# Altium footprint library J 接插件.PcbLib: 458 footprints (part 27 of 29)
Each footprint in its own frame and in the unit in brackets; x right, y up, seen from the top. Pads: shape width x height; smd on the part's side, far side on the other; paste and mask are expansions set on the pad; w line width, h text height; cw(c..) or ccw(c..) is an arc to the next point about the centre after c.
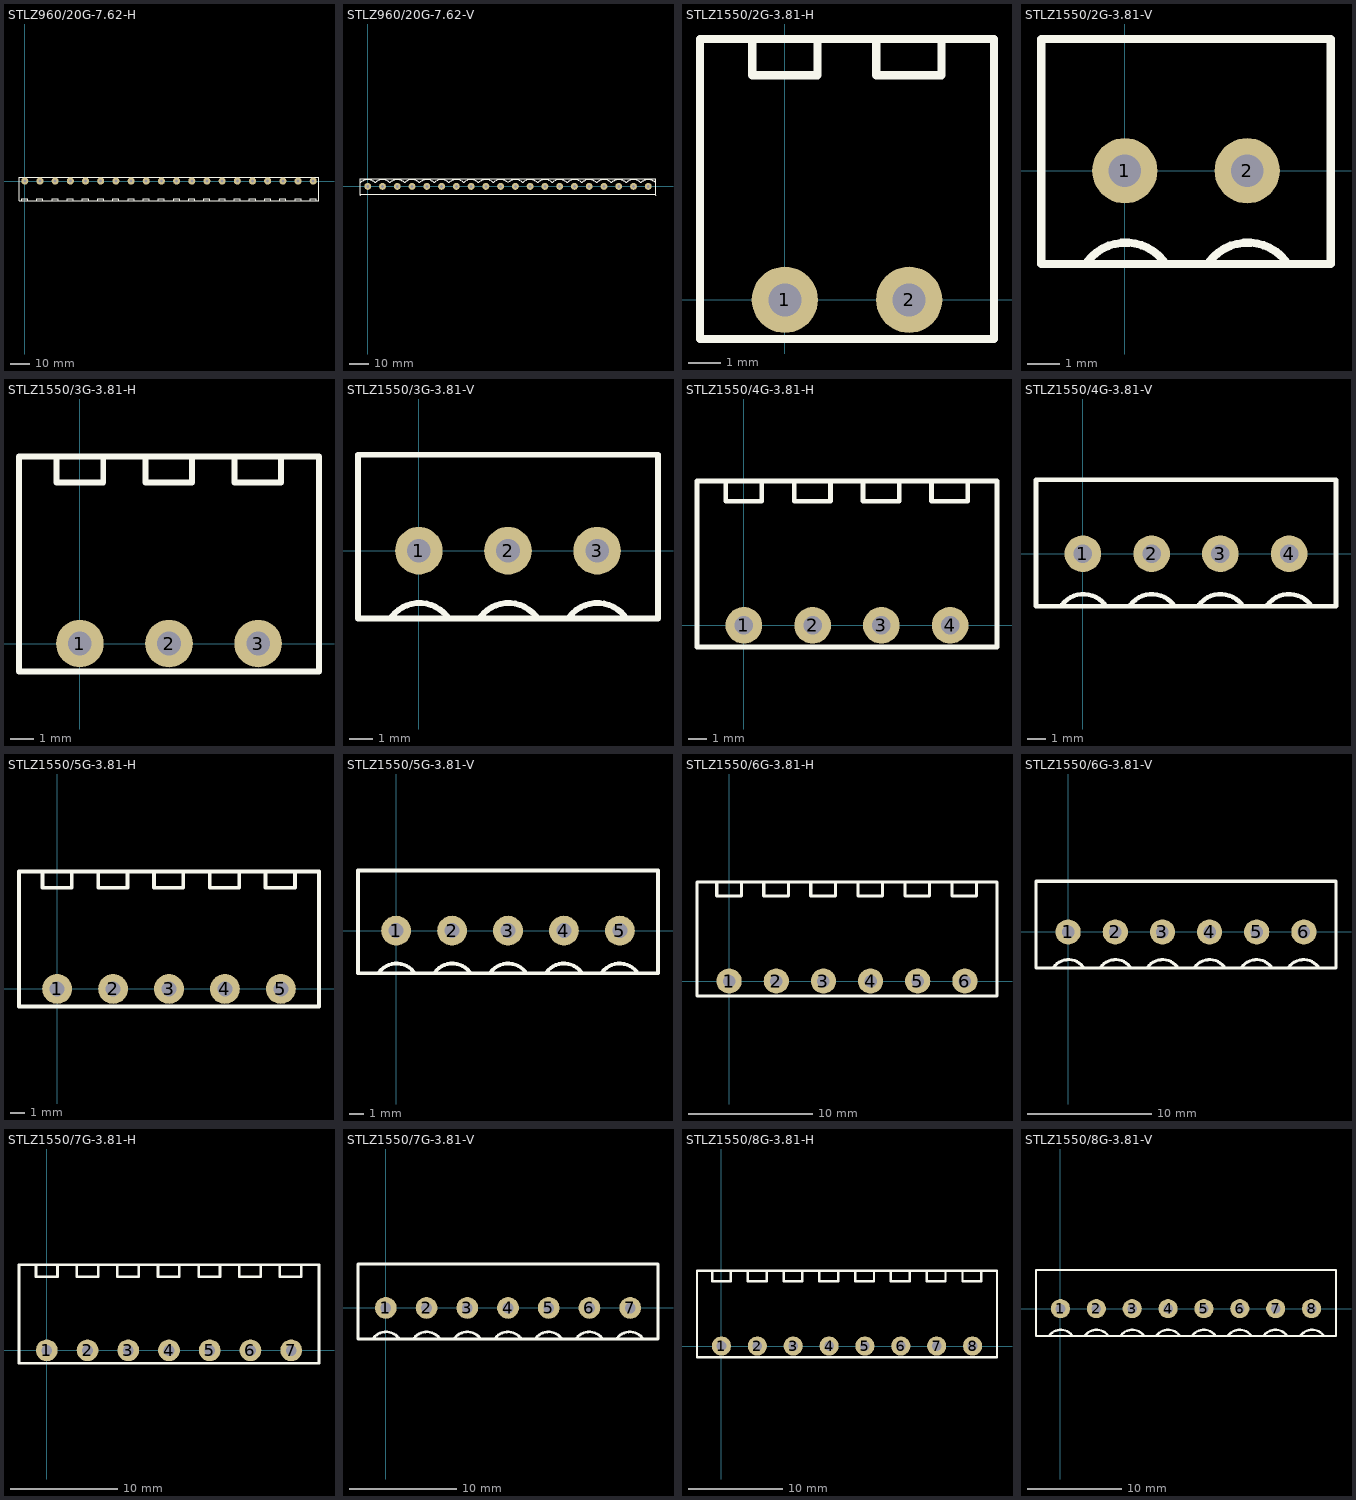
[diagram p26: the footprints below, top view; thin cyan lines are the x and y axes]

## STLZ960/20G-7.62-H [mil] "美卡诺 STLZ960 接触件座  间距：7.62   20Pin   弯角"
height 330.71
pads (20):
  round 140 hole 60: 1(0,0) 2(300,0) 3(600,0) 4(900,0) 5(1200,0) 6(1500,0) 7(1800,0) 8(2100,0) 9(2400,0) 10(2700,0) 11(3000,0) 12(3300,0) 13(3600,0) 14(3900,0) 15(4200,0) 16(4500,0) 17(4800,0) 18(5100,0) 19(5400,0) 20(5700,0)
Top Overlay:
  lines w10: -60,-390 -60,-350 60,-350 60,-390 ; 240,-390 240,-350 360,-350 360,-390 ; 540,-390 540,-350 660,-350 660,-390 ; 840,-390 840,-350 960,-350 960,-390 ; 1140,-390 1140,-350 1260,-350 1260,-390 ; 1440,-390 1440,-350 1560,-350 1560,-390 ; 1740,-390 1740,-350 1860,-350 1860,-390 ; 2040,-390 2040,-350 2160,-350 2160,-390 ; 2340,-390 2340,-350 2460,-350 2460,-390 ; 2640,-390 2640,-350 2760,-350 2760,-390 ; 2940,-390 2940,-350 3060,-350 3060,-390 ; 3240,-390 3240,-350 3360,-350 3360,-390 ; 3540,-390 3540,-350 3660,-350 3660,-390 ; 3840,-390 3840,-350 3960,-350 3960,-390 ; 4140,-390 4140,-350 4260,-350 4260,-390 ; 4440,-390 4440,-350 4560,-350 4560,-390 ; 4740,-390 4740,-350 4860,-350 4860,-390 ; 5040,-390 5040,-350 5160,-350 5160,-390 ; 5340,-390 5340,-350 5460,-350 5460,-390 ; 5640,-390 5640,-350 5760,-350 5760,-390 ; -114.17,-393.7 5814.17,-393.7 5814.17,78.74 -114.17,78.74 -114.17,-393.7

## STLZ960/20G-7.62-V [mil] "美卡诺 STLZ960 接触件座  间距：7.62   20Pin"
height 826.77
pads (20):
  round 140 hole 60: 1(0,0) 2(300,0) 3(600,0) 4(900,0) 5(1200,0) 6(1500,0) 7(1800,0) 8(2100,0) 9(2400,0) 10(2700,0) 11(3000,0) 12(3300,0) 13(3600,0) 14(3900,0) 15(4200,0) 16(4500,0) 17(4800,0) 18(5100,0) 19(5400,0) 20(5700,0)
Top Overlay:
  lines w10: -150,-181.1 -150,149.61 5850,149.61 5850,-181.1 ; -150,-161.42 5850,-161.42 ; -149.61,-182.09 -149.61,-181.1 ; -149.61,80 -140,80 cw(c0,-60) 140,80 160,80 cw(c300,-60) 440,80 460,80 cw(c600,-60) 740,80 ; -148.62,-182.09 -130.91,-164.37 ; -142.72,-173.23 -142.72,-163.39 ; 748.82,80 740,80 ; 2548.82,80 2540,80 ; 5833.27,-165.35 5849.02,-181.1 ; 5843.11,-170.28 5843.11,-162.4 ; 5848.82,80 5840,80 ccw(c5700,-60) 5560,80 5540,80 ccw(c5400,-60) 5260,80 5240,80 ccw(c5100,-60) 4960,80 4940,80 ccw(c4800,-60) 4660,80 4640,80 ccw(c4500,-60) 4360,80 4340,80 ccw(c4200,-60) 4060,80 4040,80 ccw(c3900,-60) 3760,80 3740,80 ccw(c3600,-60) 3460,80 3440,80 ccw(c3300,-60) 3160,80 3140,80 ccw(c3000,-60) 2860,80 2840,80 ccw(c2700,-60) 2560,80 2540,80 ; 740,80 760,80 cw(c900,-60) 1040,80 1060,80 cw(c1200,-60) 1340,80 1360,80 cw(c1500,-60) 1640,80 1660,80 cw(c1800,-60) 1940,80 1960,80 cw(c2100,-60) 2240,80 2260,80 cw(c2400,-60) 2540,80

## STLZ1550/2G-3.81-H [mil] "美卡诺 STLZ1550 接触件座  间距：3.81   2Pin   弯角"
height 275.59
pads (2):
  round 80 hole 40: 1(0,0) 2(150,0)
Top Overlay:
  lines w10: -39.37,311.26 -39.37,271.26 39.37,271.26 39.37,311.26 ; 110.24,311.26 110.24,271.26 188.98,271.26 188.98,311.26 ; -102.36,-47.24 -102.36,314.96 252.36,314.96 252.36,-47.24 -102.36,-47.24

## STLZ1550/2G-3.81-V [mil] "美卡诺 STLZ1550 接触件座  间距：3.81   2Pin"
height 610.24
pads (2):
  round 80 hole 40: 1(0,0) 2(150,0)
Top Overlay:
  lines w10: -46.11,-111.69 cw(c1.13,-147.13) 47.24,-110.24 ; 103.49,-111.69 cw(c150.74,-147.13) 196.85,-110.24 ; -102.36,-114.17 -102.36,161.42 252.36,161.42 252.36,-114.17 -102.36,-114.17

## STLZ1550/3G-3.81-H [mil] "美卡诺 STLZ1550 接触件座  间距：3.81   3Pin   弯角"
height 275.59
pads (3):
  round 80 hole 40: 1(0,0) 2(150,0) 3(300,0)
Top Overlay:
  lines w10: -39.37,311.26 -39.37,271.26 39.37,271.26 39.37,311.26 ; 110.24,311.26 110.24,271.26 188.98,271.26 188.98,311.26 ; 259.84,311.26 259.84,271.26 338.58,271.26 338.58,311.26 ; -102.36,-47.24 402.36,-47.24 402.36,314.96 -102.36,314.96 -102.36,-47.24

## STLZ1550/3G-3.81-V [mil] "美卡诺 STLZ1550 接触件座  间距：3.81   3Pin"
height 610.24
pads (3):
  round 80 hole 40: 1(0,0) 2(150,0) 3(300,0)
Top Overlay:
  lines w10: -46.11,-111.69 cw(c1.13,-147.13) 47.24,-110.24 ; 103.49,-111.69 cw(c150.74,-147.13) 196.85,-110.24 ; 253.1,-111.69 cw(c300.34,-147.13) 346.46,-110.24 ; -102.36,-114.17 402.36,-114.17 402.36,161.42 -102.36,161.42 -102.36,-114.17

## STLZ1550/4G-3.81-H [mil] "美卡诺 STLZ1550 接触件座  间距：3.81   4Pin   弯角"
height 275.59
pads (4):
  round 80 hole 40: 1(0,0) 2(150,0) 3(300,0) 4(450,0)
Top Overlay:
  lines w10: -39.37,311.26 -39.37,271.26 39.37,271.26 39.37,311.26 ; 110.24,311.26 110.24,271.26 188.98,271.26 188.98,311.26 ; 259.84,311.26 259.84,271.26 338.58,271.26 338.58,311.26 ; 409.45,311.26 409.45,271.26 488.19,271.26 488.19,311.26 ; -102.36,-47.24 552.36,-47.24 552.36,314.96 -102.36,314.96 -102.36,-47.24

## STLZ1550/4G-3.81-V [mil] "美卡诺 STLZ1550 接触件座  间距：3.81   4Pin"
height 610.24
pads (4):
  round 80 hole 40: 1(0,0) 2(150,0) 3(300,0) 4(450,0)
Top Overlay:
  lines w10: -46.11,-111.69 cw(c1.13,-147.13) 47.24,-110.24 ; 103.49,-111.69 cw(c150.74,-147.13) 196.85,-110.24 ; 253.1,-111.69 cw(c300.34,-147.13) 346.46,-110.24 ; 402.7,-111.69 cw(c449.95,-147.13) 496.06,-110.24 ; -102.36,-114.17 552.36,-114.17 552.36,161.42 -102.36,161.42 -102.36,-114.17

## STLZ1550/5G-3.81-H [mil] "美卡诺 STLZ1550 接触件座  间距：3.81   5Pin   弯角"
height 275.59
pads (5):
  round 80 hole 40: 1(0,0) 2(150,0) 3(300,0) 4(450,0) 5(600,0)
Top Overlay:
  lines w10: -39.37,311.26 -39.37,271.26 39.37,271.26 39.37,311.26 ; 110.24,311.26 110.24,271.26 188.98,271.26 188.98,311.26 ; 259.84,311.26 259.84,271.26 338.58,271.26 338.58,311.26 ; 409.45,311.26 409.45,271.26 488.19,271.26 488.19,311.26 ; 559.06,311.26 559.06,271.26 637.8,271.26 637.8,311.26 ; -102.36,-47.24 -102.36,314.96 702.36,314.96 702.36,-47.24 -102.36,-47.24

## STLZ1550/5G-3.81-V [mil] "美卡诺 STLZ1550 接触件座  间距：3.81   5Pin"
height 610.24
pads (5):
  round 80 hole 40: 1(0,0) 2(150,0) 3(300,0) 4(450,0) 5(600,0)
Top Overlay:
  lines w10: -46.11,-111.69 cw(c1.13,-147.13) 47.24,-110.24 ; 103.49,-111.69 cw(c150.74,-147.13) 196.85,-110.24 ; 253.1,-111.69 cw(c300.34,-147.13) 346.46,-110.24 ; 402.7,-111.69 cw(c449.95,-147.13) 496.06,-110.24 ; 552.31,-111.69 cw(c599.55,-147.13) 645.67,-110.24 ; -102.36,-114.17 -102.36,161.42 702.36,161.42 702.36,-114.17 -102.36,-114.17

## STLZ1550/6G-3.81-H [mil] "美卡诺 STLZ1550 接触件座  间距：3.81   6Pin   弯角"
height 275.59
pads (6):
  round 80 hole 40: 1(0,0) 2(150,0) 3(300,0) 4(450,0) 5(600,0) 6(750,0)
Top Overlay:
  lines w10: -39.37,311.26 -39.37,271.26 39.37,271.26 39.37,311.26 ; 110.24,311.26 110.24,271.26 188.98,271.26 188.98,311.26 ; 259.84,311.26 259.84,271.26 338.58,271.26 338.58,311.26 ; 409.45,311.26 409.45,271.26 488.19,271.26 488.19,311.26 ; 559.06,311.26 559.06,271.26 637.8,271.26 637.8,311.26 ; 708.66,311.26 708.66,271.26 787.4,271.26 787.4,311.26 ; -102.36,-47.24 -102.36,314.96 852.36,314.96 852.36,-47.24 -102.36,-47.24

## STLZ1550/6G-3.81-V [mil] "美卡诺 STLZ1550 接触件座  间距：3.81   6Pin"
height 610.24
pads (6):
  round 80 hole 40: 1(0,0) 2(150,0) 3(300,0) 4(450,0) 5(600,0) 6(750,0)
Top Overlay:
  lines w10: -46.11,-111.69 cw(c1.13,-147.13) 47.24,-110.24 ; 103.49,-111.69 cw(c150.74,-147.13) 196.85,-110.24 ; 253.1,-111.69 cw(c300.34,-147.13) 346.46,-110.24 ; 402.7,-111.69 cw(c449.95,-147.13) 496.06,-110.24 ; 552.31,-111.69 cw(c599.55,-147.13) 645.67,-110.24 ; 701.92,-111.69 cw(c749.16,-147.13) 795.28,-110.24 ; -102.36,-114.17 -102.36,161.42 852.36,161.42 852.36,-114.17 -102.36,-114.17

## STLZ1550/7G-3.81-H [mil] "美卡诺 STLZ1550 接触件座  间距：3.81   7Pin   弯角"
height 275.59
pads (7):
  round 80 hole 40: 1(0,0) 2(150,0) 3(300,0) 4(450,0) 5(600,0) 6(750,0) 7(900,0)
Top Overlay:
  lines w10: -39.37,311.26 -39.37,271.26 39.37,271.26 39.37,311.26 ; 110.24,311.26 110.24,271.26 188.98,271.26 188.98,311.26 ; 259.84,311.26 259.84,271.26 338.58,271.26 338.58,311.26 ; 409.45,311.26 409.45,271.26 488.19,271.26 488.19,311.26 ; 559.06,311.26 559.06,271.26 637.8,271.26 637.8,311.26 ; 708.66,311.26 708.66,271.26 787.4,271.26 787.4,311.26 ; 858.27,311.26 858.27,271.26 937.01,271.26 937.01,311.26 ; -102.36,-47.24 -102.36,314.96 1002.36,314.96 1002.36,-47.24 -102.36,-47.24

## STLZ1550/7G-3.81-V [mil] "美卡诺 STLZ1550 接触件座  间距：3.81   7Pin"
height 610.24
pads (7):
  round 80 hole 40: 1(0,0) 2(150,0) 3(300,0) 4(450,0) 5(600,0) 6(750,0) 7(900,0)
Top Overlay:
  lines w10: -46.11,-111.69 cw(c1.13,-147.13) 47.24,-110.24 ; 103.49,-111.69 cw(c150.74,-147.13) 196.85,-110.24 ; 253.1,-111.69 cw(c300.34,-147.13) 346.46,-110.24 ; 402.7,-111.69 cw(c449.95,-147.13) 496.06,-110.24 ; 552.31,-111.69 cw(c599.55,-147.13) 645.67,-110.24 ; 701.92,-111.69 cw(c749.16,-147.13) 795.28,-110.24 ; 851.52,-111.69 cw(c898.77,-147.13) 944.88,-110.24 ; -102.36,-114.17 -102.36,161.42 1002.36,161.42 1002.36,-114.17 -102.36,-114.17

## STLZ1550/8G-3.81-H [mil] "美卡诺 STLZ1550 接触件座  间距：3.81   8Pin   弯角"
height 275.59
pads (8):
  round 80 hole 40: 1(0,0) 2(150,0) 3(300,0) 4(450,0) 5(600,0) 6(750,0) 7(900,0) 8(1050,0)
Top Overlay:
  lines w10: -39.37,311.26 -39.37,271.26 39.37,271.26 39.37,311.26 ; 110.24,311.26 110.24,271.26 188.98,271.26 188.98,311.26 ; 259.84,311.26 259.84,271.26 338.58,271.26 338.58,311.26 ; 409.45,311.26 409.45,271.26 488.19,271.26 488.19,311.26 ; 559.06,311.26 559.06,271.26 637.8,271.26 637.8,311.26 ; 708.66,311.26 708.66,271.26 787.4,271.26 787.4,311.26 ; 858.27,311.26 858.27,271.26 937.01,271.26 937.01,311.26 ; 1007.87,311.26 1007.87,271.26 1086.61,271.26 1086.61,311.26 ; -102.36,-47.24 -102.36,314.96 1152.36,314.96 1152.36,-47.24 -102.36,-47.24

## STLZ1550/8G-3.81-V [mil] "美卡诺 STLZ1550 接触件座  间距：3.81   8Pin"
height 610.24
pads (8):
  round 80 hole 40: 1(0,0) 2(150,0) 3(300,0) 4(450,0) 5(600,0) 6(750,0) 7(900,0) 8(1050,0)
Top Overlay:
  lines w10: -46.11,-111.69 cw(c1.13,-147.13) 47.24,-110.24 ; 103.49,-111.69 cw(c150.74,-147.13) 196.85,-110.24 ; 253.1,-111.69 cw(c300.34,-147.13) 346.46,-110.24 ; 402.7,-111.69 cw(c449.95,-147.13) 496.06,-110.24 ; 552.31,-111.69 cw(c599.55,-147.13) 645.67,-110.24 ; 701.92,-111.69 cw(c749.16,-147.13) 795.28,-110.24 ; 851.52,-111.69 cw(c898.77,-147.13) 944.88,-110.24 ; 1005.07,-111.69 cw(c1052.31,-147.13) 1098.43,-110.24 ; -102.36,-114.17 1152.36,-114.17 1152.36,161.42 -102.36,161.42 -102.36,-114.17